# Altium schematic symbol library Schlib1.SchLib: 12 symbols
Pins are listed as number, name and electrical type; pins without a type are passive.

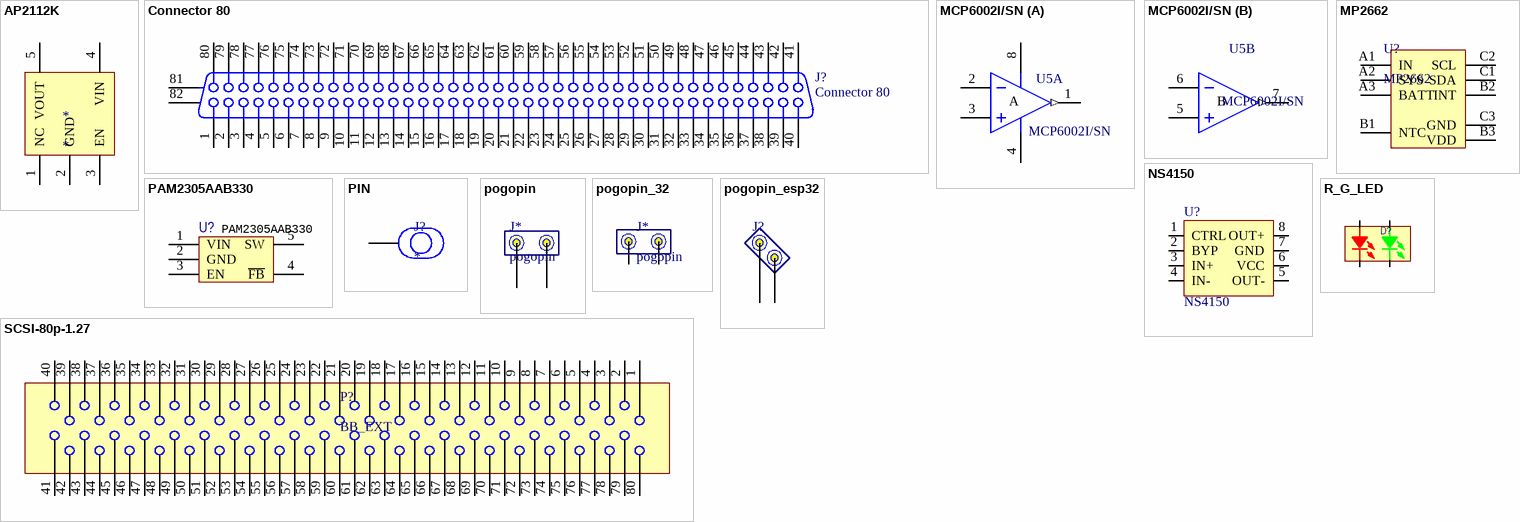
[diagram p0: symbols AP2112K to SCSI-80p-1.27]

## AP2112K
designator *
pins: 1 NC, 2 GND, 3 EN, 4 VIN, 5 VOUT

## Connector 80
designator J?
Receptacle Header Assemby; PackageDocument: C; Positions: 80; Published: 15-Jun-2001; LatestRevisionDate: 17-Jul-2002; LatestRevisionNote: Re-released for DXP Platform.; DatasheetDocument: 1-Oct-1983; PackageReference: 917334; Publisher: Altium Limited; Orientation: Vertical
footprint CHAMP1.27-2V80 (Connector; 80 Position; Vertical; Pitch 1.27 mm)
signal-integrity model Connector
pins: 1, 2, 3, 4, 5, 6, 7, 8, 9, 10, 11, 12, 13, 14, 15, 16, 17, 18, 19, 20, 21, 22, 23, 24, 25, 26, 27, 28, 29, 30, 31, 32, 33, 34, 35, 36, 37, 38, 39, 40, 41, 42, 43, 44, 45, 46, 47, 48, 49, 50, 51, 52, 53, 54, 55, 56, 57, 58, 59, 60, 61, 62, 63, 64, 65, 66, 67, 68, 69, 70, 71, 72, 73, 74, 75, 76, 77, 78, 79, 80, 81 MH1, 82 MH2

## MCP6002I/SN
designator U5
Single/Dual/Quad  General Purpose, Low Voltage, Rail-to-Rail Output  Operational Amplifiers
footprint SOIC-8
part A pins: 1 O1 (out), 2 IN1-, 3 IN1+, 4 V-, 8 V+
part B pins: 5 IN2+, 6 IN2-, 7 O2 (out)
part A text: A
part B text: B

## MP2662
designator U?
500mA Single Cell Li-ion Battery Charger  with Power Path Management, 1mA  Termination and <1μA Battery Leakage
footprint WLCSP-9 (Footprint not found)
pins: A1 IN, A2 SYS, A3 BATT, B1 NTC (power), B2 INT, B3 VDD, C1 SDA, C2 SCL, C3 GND

## NS4150
designator U?
超低 EMI、无需滤波器3W单声道D类音频功率放大器; 名称: NS4150; footprint: MSOP8
footprint SOIC-8
footprint MSOP8 (Footprint not found)
pins: 1 CTRL, 2 BYP, 3 IN+, 4 IN-, 5 OUT-, 6 VCC, 7 GND, 8 OUT+

## PAM2305AAB330
designator U?
PAM2305AAB330 采用SOT-23 封装的2.5V 至5.5V 输入，1A 降压稳压  器
footprint SOT-23-5 (Footprint not found)
pins: 1 VIN, 2 GND, 3 EN, 4 ~{FB} (power), 5 SW

## PIN
designator J?
pins: 1

## pogopin
designator J*
pins: 1, 2

## pogopin_32
designator J*, comment pogopin
pins: 1, 2

## pogopin_esp32
designator J?, comment pogopin  (value not drawn)
pins: 1, 2

## R_G_LED
designator D?, comment LED  (value not drawn)
Manufacturer: ?; PackageReference: ?; PartNumber: ?; Value: ?; 链接: https://item.taobao.com/item.htm?spm=a230r.1.14.29.4dd0c2edyA93Ru&id=42443118930&ns=1&abbucket=3#detail
footprint 0603_LED
footprint 0805 (Footprint not found)
pins: 1 ANODE, 2 CATHODE, 3 CATHODE, 4 ANODE

## SCSI-80p-1.27
designator P?, comment BB_EXT
SCSI-80p-1.27
pins: 1, 2, 3, 4, 5, 6, 7, 8, 9, 10, 11, 12, 13, 14, 15, 16, 17, 18, 19, 20, 21, 22, 23, 24, 25, 26, 27, 28, 29, 30, 31, 32, 33, 34, 35, 36, 37, 38, 39, 40, 41, 42, 43, 44, 45, 46, 47, 48, 49, 50, 51, 52, 53, 54, 55, 56, 57, 58, 59, 60, 61, 62, 63, 64, 65, 66, 67, 68, 69, 70, 71, 72, 73, 74, 75, 76, 77, 78, 79, 80